# Altium footprint library PcbLib.PcbLib: 5 footprints
Each footprint in its own frame and in the unit in brackets; x right, y up, seen from the top. Pads: shape width x height; smd on the part's side, far side on the other; paste and mask are expansions set on the pad; w line width, h text height; cw(c..) or ccw(c..) is an arc to the next point about the centre after c.
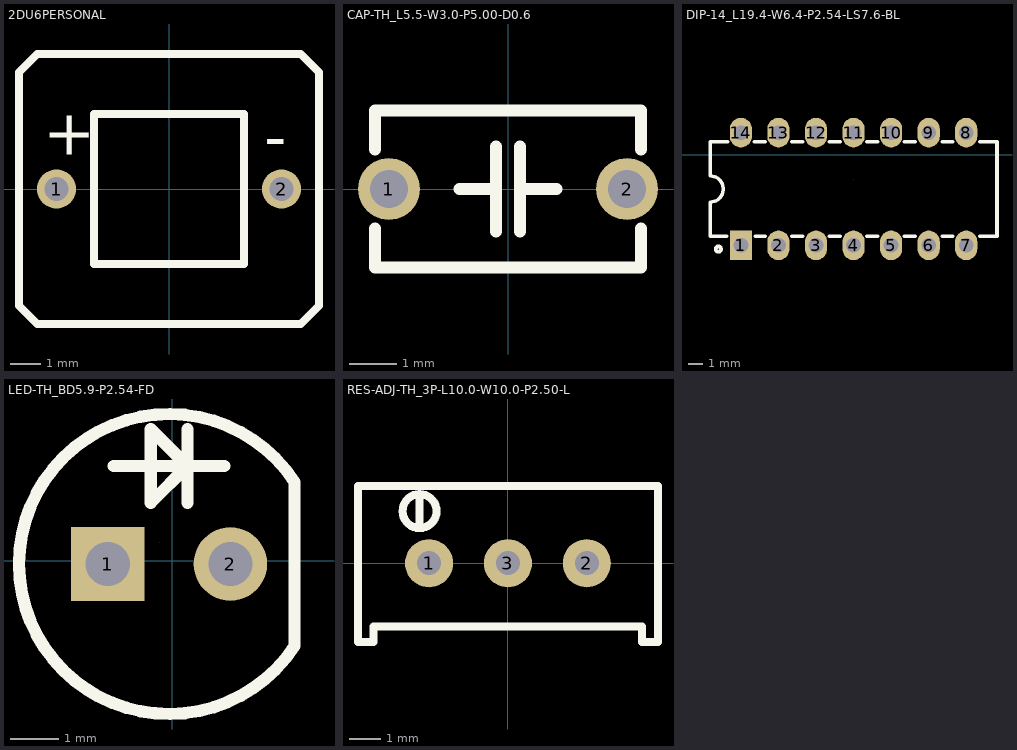
[diagram p0: the footprints below, top view; thin cyan lines are the x and y axes]

## 2DU6PERSONAL [mm]
pads (2):
  round 1.3 hole 0.8: 1(-3.75,0) 2(3.75,0)
Top Overlay:
  lines w0.254: -5,-3.89 -5,3.89 -4.39,4.5 4.39,4.5 5,3.89 5,-3.89 4.39,-4.5 -4.39,-4.5 -5,-3.89 ; -2.5,-2.5 -2.5,2.5 2.5,2.5 2.5,-2.5 -2.5,-2.5
  text "+" at -4.191,1.143 h1.52
  text "-" at 3.175,1.016 h1.52

## CAP-TH_L5.5-W3.0-P5.00-D0.6 [mm]
pads (2):
  round 1.3 hole 0.8: 1(-2.5,0) 2(2.5,0)
Top Overlay:
  lines w0.254: -2.794,-0.83 -2.794,-1.651 2.794,-1.651 2.794,-0.83 ; -2.794,0.83 -2.794,1.651 2.794,1.651 2.794,0.83 ; -1.016,0 -0.254,0 ; -0.254,-0.889 -0.254,0.889 ; 0.254,-0.889 0.254,0.889 ; 0.254,0 1.016,0

## DIP-14_L19.4-W6.4-P2.54-LS7.6-BL [mm]
pads (14):
  rect 1.5x2 hole 1: 1(12.512,-6.112)
  oval 1.5x2 hole 1: 2(15.052,-6.112) 3(17.592,-6.112) 4(20.132,-6.112) 5(22.672,-6.112) 6(25.212,-6.112) 7(27.752,-6.112) 8(27.752,1.508) 9(25.212,1.508) 10(22.672,1.508) 11(20.132,1.508) 12(17.592,1.508) 13(15.052,1.508) 14(12.512,1.508)
Top Overlay:
  circle w0.254: c10.988,-6.366 r0.18
  lines w0.24: 10.432,-3.191 ccw(c10.432,-2.302) 10.432,-1.413
  lines w0.254: 10.432,-3.191 10.432,-5.502 11.531,-5.502 ; 10.432,-1.413 10.432,0.898 11.599,0.898 ; 13.424,0.898 14.139,0.898 ; 13.493,-5.502 14.139,-5.502 ; 15.964,-5.502 16.679,-5.502 ; 15.964,0.898 16.679,0.898 ; 18.504,-5.502 19.219,-5.502 ; 18.504,0.898 19.219,0.898 ; 21.044,-5.502 21.759,-5.502 ; 21.044,0.898 21.759,0.898 ; 23.584,-5.502 24.299,-5.502 ; 23.584,0.898 24.299,0.898 ; 26.124,-5.502 26.839,-5.502 ; 26.124,0.898 26.839,0.898 ; 28.664,-5.502 29.832,-5.502 29.832,0.898 28.664,0.898
Mechanical 15:
  lines w0.003: 20.132,-1.691 20.132,-1.69

## LED-TH_BD5.9-P2.54-FD [mil]
pads (2):
  rect 60x60 hole 36: 1(-52.64,-2.67)
  round 60 hole 36: 2(47.36,-2.67)
Top Overlay:
  lines w10: -47.64,77.33 42.36,77.33 ; 12.36,47.34 12.36,107.33 ; 12.42,77.33 -17.58,47.34 -17.64,47.34 -17.64,107.33 12.36,77.33 12.61,77.33 ; 99.72,-69.59 99.72,64.26 ; 99.76,-69.57 cw(c-2.67,-2.67) 99.76,64.24
Mechanical 15:
  lines w0.1: -10.15,14.91 -10.13,14.93

## RES-ADJ-TH_3P-L10.0-W10.0-P2.50-L [mil]
pads (3):
  round 60 hole 30: 1(-98.42,0) 2(98.42,0) 3(0,0)
Top Overlay:
  lines w10: -110.39,50 -110.39,65 ; -110.4,86.2 ccw(c-110.19,64.99) -109.99,86.2 ; 187.01,96.46 -187.01,96.46 -187.01,-96.46 -187.01,-98.42 -167.52,-98.42 -167.52,-78.74 167.52,-78.74 167.52,-98.42 187.22,-98.42 187.22,-96.46 187.22,96.46 ; -110.39,65 -110.39,80 -110.39,65